# Altium schematic symbol library Schlib1.SchLib: 1 symbol
Pins are listed as number, name and electrical type; pins without a type are passive.

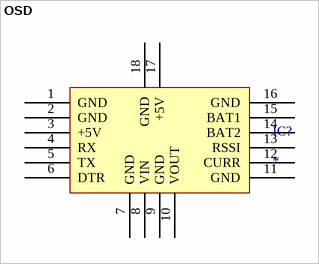
[diagram p0: symbol OSD]

## OSD
designator IC?
footprint OSD
pins: 1 GND, 2 GND, 3 +5V, 4 RX, 5 TX, 6 DTR, 7 GND, 8 VIN, 9 GND, 10 VOUT, 11 GND, 12 CURR, 13 RSSI, 14 BAT2, 15 BAT1, 16 GND, 17 +5V, 18 GND